# EAGLE library part NRJ6HM-1 (library NewSDR)
Neutrik 1/4" Horizontal PCB Phone Jack
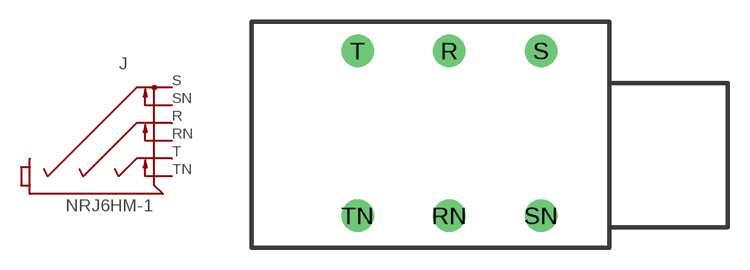
[diagram p180: symbol with the pads of NRJ6HM-1; footprint NRJ6HM-1]

Designator prefix J

## NRJ6HM-1  [NRJ6HM-1]
R  R  pas
RN  RN  pas
S  S  pas
SN  SN  pas
T  T  pas
TN  TN  pas

## Footprint NRJ6HM-1 (pad centres in mm)
Neutrik Slim Jack
drill 1.5: R -11.1,7.23; RN -11.1,-4.2; S -4.75,7.23; SN -4.75,-4.2; T -17.45,7.23; TN -17.45,-4.2